# Altium footprint library common.PcbLib: 93 footprints (part 3 of 6)
Each footprint in its own frame and in the unit in brackets; x right, y up, seen from the top. Pads: shape width x height; smd on the part's side, far side on the other; paste and mask are expansions set on the pad; w line width, h text height; cw(c..) or ccw(c..) is an arc to the next point about the centre after c.
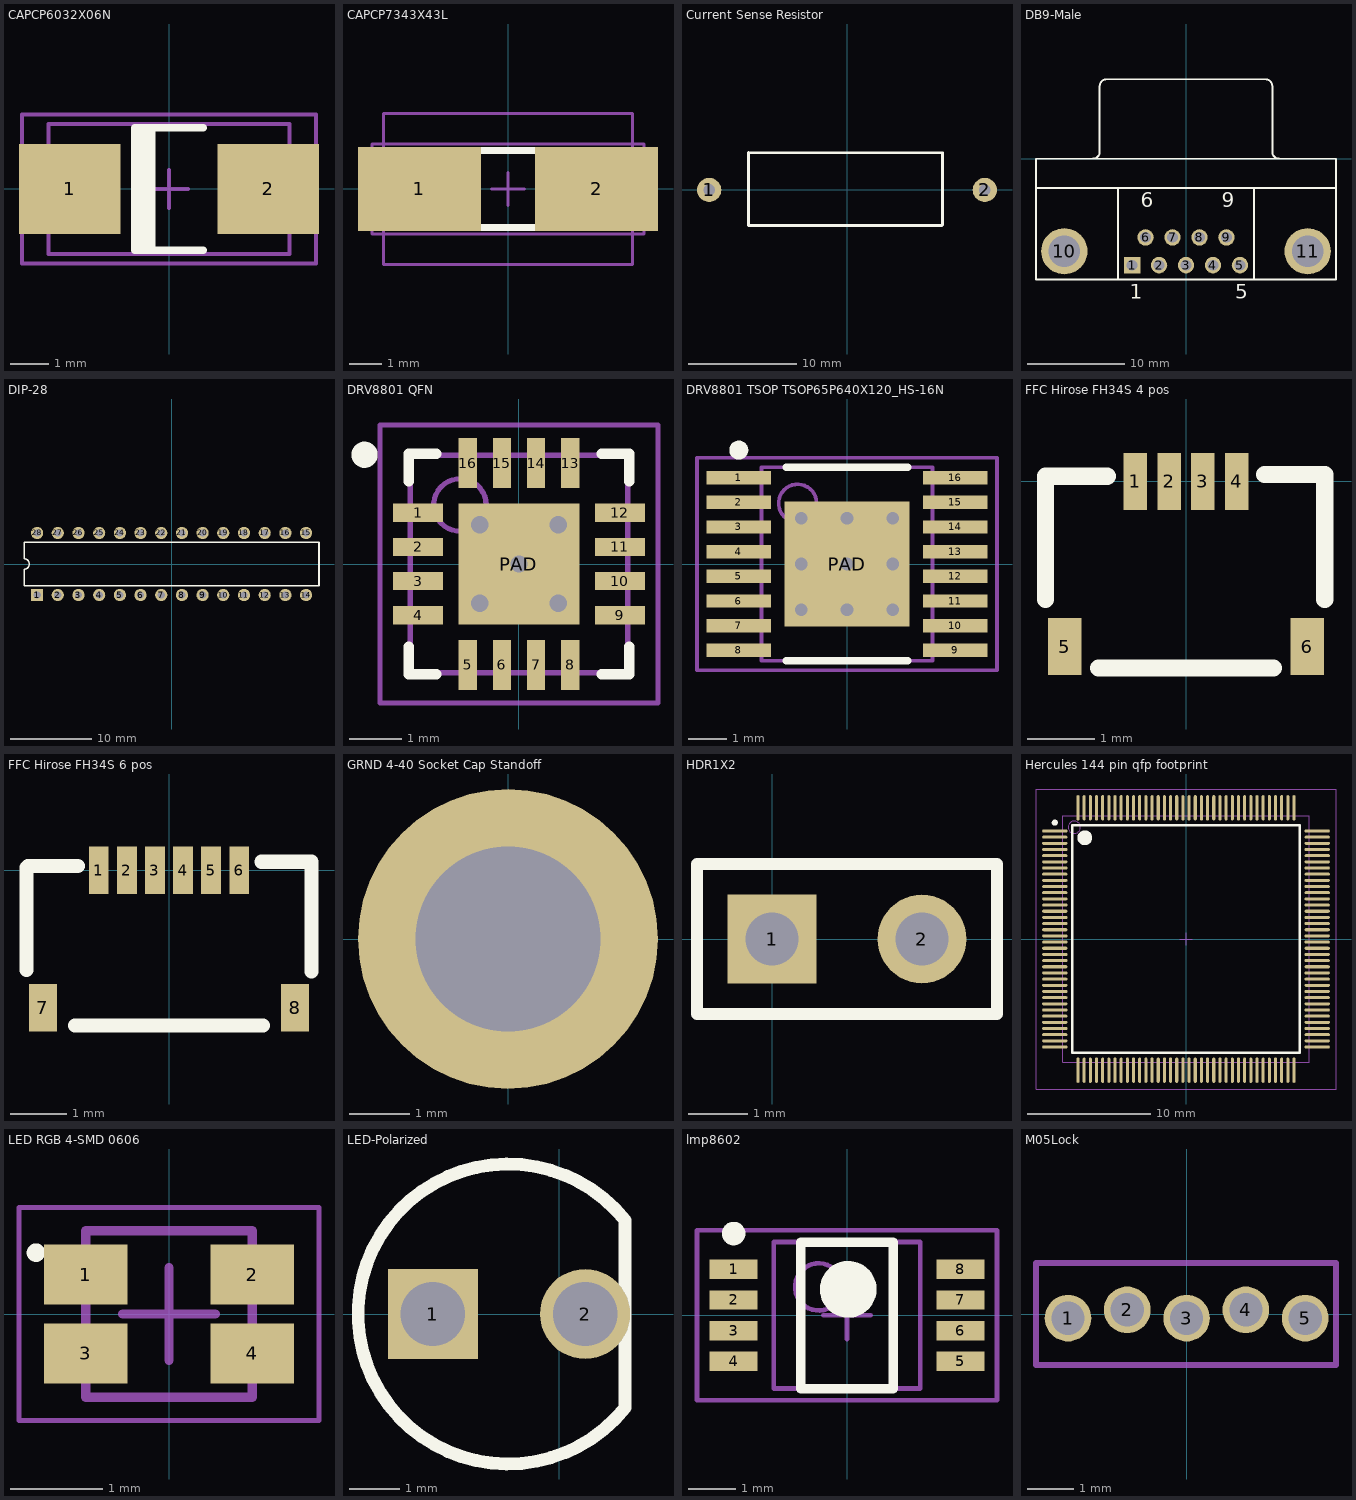
[diagram p2: the footprints below, top view; thin cyan lines are the x and y axes]

## CAPCP6032X06N [mm] "Chip Capacitor, 2-Leads, Body 6.0x3.2mm, IPC Medium Density"
height 0.6
pads (2):
  rect 2.65x2.35 smd: 1(-2.6,0) 2(2.6,0)
Top Overlay:
  rectangle: -0.9,-1.6 -0.35,1.6
  lines w0.2: 0.9,-1.6 -0.9,-1.6 -0.9,1.6 0.9,1.6
Mechanical 13:
  lines w0.1: -3.15,-1.7 3.15,-1.7 3.15,1.7 -3.15,1.7 -3.15,-1.7
Mechanical 15:
  lines w0.1: -0.5,0 0.5,0 ; 0,-0.5 0,0.5 ; -3.85,-1.95 3.85,-1.95 3.85,1.95 -3.85,1.95 -3.85,-1.95
3D body: height 0.6, standoff 0, extent -3.15,-1.7 3.15,1.7

## CAPCP7343X43L [mm] "Chip Capacitor, 2-Leads, Body 7.3x4.3mm, IPC High Density"
height 4.3
pads (2):
  rect 3.75x2.55 smd: 1(-2.7,0) 2(2.7,0)
Top Overlay:
  rectangle: -1.55,-1.175 -1,1.175
  lines w0.2: 1.55,-1.175 -1.55,-1.175 -1.55,1.175 1.55,1.175
Mechanical 13:
  lines w0.1: -3.8,-2.3 -3.8,2.3 3.8,2.3 3.8,-2.3 -3.8,-2.3
Mechanical 15:
  lines w0.1: -0.5,0 0.5,0 ; 0,-0.5 0,0.5 ; -4.15,-1.375 -4.15,1.375 4.15,1.375 4.15,-1.375 -4.15,-1.375
3D body: height 4.3, standoff 0, extent -3.8,-2.3 3.8,2.3

## Current Sense Resistor [mil] "Current Sense"
height 10
pads (2):
  round 88 hole 42: 1(-500,0) 2(500,0)
Top Overlay:
  lines w10: -357,-129 -357,136 -356,135 347,135 346,134 346,-127 344,-129 -357,-129

## DB9-Male [mm] "Connector; D Subminiature; 9 Position; Right Angle; Pitch 1.385 mm"
height 12.75
pads (11):
  rect 1.69x1.69 hole 1.09: 1(-5.54,-10.92)
  round 1.69 hole 1.09: 2(-2.77,-10.92) 3(0,-10.92) 4(2.77,-10.92) 5(5.54,-10.92) 6(-4.155,-8.08) 7(-1.385,-8.08) 8(1.385,-8.08) 9(4.155,-8.08)
  round 4.76 hole 3.26: 10(-12.495,-9.5) 11(12.495,-9.5)
Top Overlay:
  lines w0.2: -15.4,-3 15.4,-3 ; -9.56,0.005 ccw(c-9.56,0.7) -8.865,0.7 -8.865,7.493 ; -8.86,7.464 cw(c-8.165,7.464) -8.165,8.159 8.165,8.159 cw(c8.165,7.464) 8.86,7.464 ; -7,-12.4 -7,-3 ; 7,-12.4 7,-3 ; 8.865,7.493 8.865,0.7 ccw(c9.56,0.7) 9.56,0.005 ; -15.4,-12.4 -15.4,0 15.4,0 15.4,-12.4 -15.4,-12.4
  text "1" at -5.79,-14.375 h1.5
  text "5" at 5.04,-14.375 h1.5
  text "9" at 3.655,-4.975 h1.5
  text "6" at -4.655,-4.975 h1.5
3D body: height 12.55, standoff -4.1, extent -15.526,-12.675 15.374,8.225

## DIP-28 [mm] "Plastic DIP; 28 Leads; Row Spacing 7.62 mm; Pitch 2.54 mm"
height 5.34
pads (28):
  rect 1.5x1.5 hole 0.9: 1(-16.51,-3.81)
  round 1.5 hole 0.9: 2(-13.97,-3.81) 3(-11.43,-3.81) 4(-8.89,-3.81) 5(-6.35,-3.81) 6(-3.81,-3.81) 7(-1.27,-3.81) 8(1.27,-3.81) 9(3.81,-3.81) 10(6.35,-3.81) 11(8.89,-3.81) 12(11.43,-3.81) 13(13.97,-3.81) 14(16.51,-3.81) 15(16.51,3.81) 16(13.97,3.81) 17(11.43,3.81) 18(8.89,3.81) 19(6.35,3.81) 20(3.81,3.81) 21(1.27,3.81) 22(-1.27,3.81) 23(-3.81,3.81) 24(-6.35,3.81) 25(-8.89,3.81) 26(-11.43,3.81) 27(-13.97,3.81) 28(-16.51,3.81)
Top Overlay:
  lines w0.2: -18.1,-2.65 18.1,-2.65 18.1,2.65 -18.1,2.65 -18.1,0.635 cw(c-18.1,0) -18.1,-0.635 -18.1,-2.65

## DRV8801 QFN [mm] "QFN, 16-Leads, Body 4.2x4.2mm (max), Pitch 0.65mm, IPC Medium Density"
height 0.8
pads (17):
  rect 0.95x0.35 smd: 1(-1.925,0.975) 2(-1.925,0.325) 3(-1.925,-0.325) 4(-1.925,-0.975) 9(1.925,-0.975) 10(1.925,-0.325) 11(1.925,0.325) 12(1.925,0.975)
  rect 0.35x0.95 smd: 5(-0.975,-1.925) 6(-0.325,-1.925) 7(0.325,-1.925) 8(0.975,-1.925) 13(0.975,1.925) 14(0.325,1.925) 15(-0.325,1.925) 16(-0.975,1.925)
  rect 2.3x2.3 smd paste-99: PAD(0,0)
via -0.75,0.75 diameter 0.66 hole 0.33
via 0.75,0.75 diameter 0.66 hole 0.33
via -0.75,-0.75 diameter 0.66 hole 0.33
via 0.75,-0.75 diameter 0.66 hole 0.33
via 0,0 diameter 0.66 hole 0.33
Top Overlay:
  circle w0.25: c-2.944,2.083 r0.125
  lines w0.2: -2.1,-1.575 -2.1,-2.1 -1.575,-2.1 ; -2.1,1.575 -2.1,2.1 -1.575,2.1 ; 1.575,-2.1 2.1,-2.1 2.1,-1.575 ; 1.575,2.1 2.1,2.1 2.1,1.575
Top Paste:
  rectangle: 0.067,-0.914 0.914,-0.067
  rectangle: -0.914,-0.914 -0.067,-0.051
  rectangle: 0.067,0.076 0.914,0.914
  rectangle: -0.914,0.067 -0.067,0.914
Mechanical 13:
  circle w0.1: c-1.125,1.125 r0.5
  lines w0.1: -2.075,-2.075 -2.075,2.075 2.075,2.075 2.075,-2.075 -2.075,-2.075
Mechanical 15:
  lines w0.1: -0.5,0 0.5,0 ; 0,-0.5 0,0.5 ; -2.65,-2.65 -2.65,2.65 2.65,2.65 2.65,-2.65 -2.65,-2.65
3D body: height 0.8, standoff 0.08, extent -2.075,-2.075 2.075,2.075

## DRV8801 TSOP TSOP65P640X120_HS-16N [mm] "TSOP, 16-Leads, Body 5.1x4.5mm (max), Pitch 0.65mm, IPC Medium Density"
height 1.2
pads (17):
  rect 1.7x0.35 smd: 1(-2.85,2.275) 2(-2.85,1.625) 3(-2.85,0.975) 4(-2.85,0.325) 5(-2.85,-0.325) 6(-2.85,-0.975) 7(-2.85,-1.625) 8(-2.85,-2.275) 9(2.85,-2.275) 10(2.85,-1.625) 11(2.85,-0.975) 12(2.85,-0.325) 13(2.85,0.325) 14(2.85,0.975) 15(2.85,1.625) 16(2.85,2.275)
  rect 3.3x3.3 smd: PAD(0,0)
via 1.2,-1.2 diameter 0.66 hole 0.33
via 0,-1.2 diameter 0.66 hole 0.33
via -1.2,-1.2 diameter 0.66 hole 0.33
via 1.2,0 diameter 0.66 hole 0.33
via 0,0 diameter 0.66 hole 0.33
via -1.2,0 diameter 0.66 hole 0.33
via 1.2,1.2 diameter 0.66 hole 0.33
via 0,1.2 diameter 0.66 hole 0.33
via -1.2,1.2 diameter 0.66 hole 0.33
Top Overlay:
  circle w0.25: c-2.85,3 r0.125
  lines w0.2: -1.6,-2.55 1.6,-2.55 ; -1.6,2.55 1.6,2.55
Mechanical 13:
  circle w0.1: c-1.3,1.6 r0.5
  lines w0.1: -2.25,-2.55 2.25,-2.55 2.25,2.55 -2.25,2.55 -2.25,-2.55
Mechanical 15:
  lines w0.1: -0.5,0 0.5,0 ; 0,-0.5 0,0.5 ; -3.95,-2.8 3.95,-2.8 3.95,2.8 -3.95,2.8 -3.95,-2.8
3D body: height 1.2, standoff 0.1, extent -2.25,-2.55 2.25,2.55

## FFC Hirose FH34S 4 pos [mm] "Hirose FH34S 4 Pos"
height 1
pads (6):
  rect 0.35x0.85 all layers, no hole: 1(-0.75,0) 2(-0.25,0) 3(0.25,0) 4(0.75,0)
  rect 0.5x0.85 all layers, no hole: 5(-1.8,-2.45) 6(1.8,-2.45)
Top Overlay:
  lines w0.254: -2.083,-1.753 -2.083,0.076 -1.168,0.076 ; -1.295,-2.769 1.295,-2.769 ; 1.168,0.102 2.057,0.102 2.057,-1.753

## FFC Hirose FH34S 6 pos [mm] "Hirose FH34S 6 Pos"
height 1
pads (8):
  rect 0.35x0.85 all layers, no hole: 1(-1.25,0) 2(-0.75,0) 3(-0.25,0) 4(0.25,0) 5(0.75,0) 6(1.25,0)
  rect 0.5x0.85 all layers, no hole: 7(-2.25,-2.45) 8(2.25,-2.45)
Top Overlay:
  lines w0.254: -2.54,-1.778 -2.54,0.051 -2.515,0.076 -2.184,0.076 -1.626,0.076 ; -1.676,-2.769 1.676,-2.769 ; 1.651,0.152 2.54,0.152 2.54,-1.803

## GRND 4-40 Socket Cap Standoff [mil] "4-40 Socket Cap Standoff Ground"
height 112
pads (1):
  round 195 hole 120 unplated: ""(0,0)

## HDR1X2 [mm] "Connector; Header; 2 Position"
pads (2):
  rect 1.5x1.5 hole 0.9: 1(0,0)
  round 1.5 hole 0.9: 2(2.54,0)
Top Overlay:
  lines w0.2: -1.27,-1.27 -1.27,1.27 3.81,1.27 3.81,-1.27 -1.27,-1.27
3D body: height 10.38, standoff -3.16, extent -1.067,-1.168 3.607,1.169

## Hercules 144 pin qfp footprint [mm] "TSQFP, 144-Leads, Body 22.2x22.2mm (max), Pitch 0.50mm, IPC Low Density"
height 1.45
pads (144):
  oval 2.05x0.25 smd: 1(-10.625,8.75) 2(-10.625,8.25) 3(-10.625,7.75) 4(-10.625,7.25) 5(-10.625,6.75) 6(-10.625,6.25) 7(-10.625,5.75) 8(-10.625,5.25) 9(-10.625,4.75) 10(-10.625,4.25) 11(-10.625,3.75) 12(-10.625,3.25) 13(-10.625,2.75) 14(-10.625,2.25) 15(-10.625,1.75) 16(-10.625,1.25) 17(-10.625,0.75) 18(-10.625,0.25) 19(-10.625,-0.25) 20(-10.625,-0.75) 21(-10.625,-1.25) 22(-10.625,-1.75) 23(-10.625,-2.25) 24(-10.625,-2.75) 25(-10.625,-3.25) 26(-10.625,-3.75) 27(-10.625,-4.25) 28(-10.625,-4.75) 29(-10.625,-5.25) 30(-10.625,-5.75) 31(-10.625,-6.25) 32(-10.625,-6.75) 33(-10.625,-7.25) 34(-10.625,-7.75) 35(-10.625,-8.25) 36(-10.625,-8.75) 73(10.625,-8.75) 74(10.625,-8.25) 75(10.625,-7.75) 76(10.625,-7.25) 77(10.625,-6.75) 78(10.625,-6.25) 79(10.625,-5.75) 80(10.625,-5.25) 81(10.625,-4.75) 82(10.625,-4.25) 83(10.625,-3.75) 84(10.625,-3.25) 85(10.625,-2.75) 86(10.625,-2.25) 87(10.625,-1.75) 88(10.625,-1.25) 89(10.625,-0.75) 90(10.625,-0.25) 91(10.625,0.25) 92(10.625,0.75) 93(10.625,1.25) 94(10.625,1.75) 95(10.625,2.25) 96(10.625,2.75) 97(10.625,3.25) 98(10.625,3.75) 99(10.625,4.25) 100(10.625,4.75) 101(10.625,5.25) 102(10.625,5.75) 103(10.625,6.25) 104(10.625,6.75) 105(10.625,7.25) 106(10.625,7.75) 107(10.625,8.25) 108(10.625,8.75)
  oval 0.25x2.05 smd: 37(-8.75,-10.625) 38(-8.25,-10.625) 39(-7.75,-10.625) 40(-7.25,-10.625) 41(-6.75,-10.625) 42(-6.25,-10.625) 43(-5.75,-10.625) 44(-5.25,-10.625) 45(-4.75,-10.625) 46(-4.25,-10.625) 47(-3.75,-10.625) 48(-3.25,-10.625) 49(-2.75,-10.625) 50(-2.25,-10.625) 51(-1.75,-10.625) 52(-1.25,-10.625) 53(-0.75,-10.625) 54(-0.25,-10.625) 55(0.25,-10.625) 56(0.75,-10.625) 57(1.25,-10.625) 58(1.75,-10.625) 59(2.25,-10.625) 60(2.75,-10.625) 61(3.25,-10.625) 62(3.75,-10.625) 63(4.25,-10.625) 64(4.75,-10.625) 65(5.25,-10.625) 66(5.75,-10.625) 67(6.25,-10.625) 68(6.75,-10.625) 69(7.25,-10.625) 70(7.75,-10.625) 71(8.25,-10.625) 72(8.75,-10.625) 109(8.75,10.625) 110(8.25,10.625) 111(7.75,10.625) 112(7.25,10.625) 113(6.75,10.625) 114(6.25,10.625) 115(5.75,10.625) 116(5.25,10.625) 117(4.75,10.625) 118(4.25,10.625) 119(3.75,10.625) 120(3.25,10.625) 121(2.75,10.625) 122(2.25,10.625) 123(1.75,10.625) 124(1.25,10.625) 125(0.75,10.625) 126(0.25,10.625) 127(-0.25,10.625) 128(-0.75,10.625) 129(-1.25,10.625) 130(-1.75,10.625) 131(-2.25,10.625) 132(-2.75,10.625) 133(-3.25,10.625) 134(-3.75,10.625) 135(-4.25,10.625) 136(-4.75,10.625) 137(-5.25,10.625) 138(-5.75,10.625) 139(-6.25,10.625) 140(-6.75,10.625) 141(-7.25,10.625) 142(-7.75,10.625) 143(-8.25,10.625) 144(-8.75,10.625)
Top Overlay:
  circle w0.25: c-10.625,9.425 r0.125
  circle w0.6: c-8.2,8.2 r0.3
  lines w0.2: -9.2,-9.2 -9.2,9.2 9.2,9.2 9.2,-9.2 -9.2,-9.2
Mechanical 13:
  circle w0.1: c-9.05,9.05 r0.5
  lines w0.1: -10,-10 -10,10 10,10 10,-10 -10,-10
Mechanical 15:
  lines w0.1: -0.5,0 0.5,0 ; 0,-0.5 0,0.5 ; -12.15,-12.15 -12.15,12.15 12.15,12.15 12.15,-12.15 -12.15,-12.15
3D body: height 1.45, standoff 0.05, extent -10,-10 10,10

## LED RGB 4-SMD 0606 [mm] "LED RGB 40SMD 0606"
height 0.7
pads (4):
  rect 0.9x0.65 smd: 1(-0.9,0.425) 2(0.9,0.425) 3(-0.9,-0.425) 4(0.9,-0.425)
Top Overlay:
  circle w0.1: c-1.437,0.663 r0.05
Mechanical 13:
  lines w0.1: -0.9,-0.9 0.9,-0.9 0.9,0.9 -0.9,0.9 -0.9,-0.9
Mechanical 15:
  lines w0.05: -1.62,-1.15 1.62,-1.15 1.62,1.15 -1.62,1.15 -1.62,-1.15
  lines w0.1: -0.5,0 0.5,0 ; 0,-0.5 0,0.5
3D body: height 0.7, standoff 0, extent -0.9,-0.9 0.9,0.9

## LED-Polarized [mil]
pads (2):
  rect 70x70 hole 50: 1(-98.43,0)
  round 70 hole 50: 2(20,0)
Top Overlay:
  lines w10: 51.06,-72.85 cw(c-40,0) 51.06,72.85 51.06,-72.85

## lmp8602 [mm] "8 pin MSOP lmp8602"
height 1.09
pads (8):
  rect 1.02x0.41 smd: 1(-2.4,0.975) 2(-2.4,0.325) 3(-2.4,-0.325) 4(-2.4,-0.975) 5(2.4,-0.975) 6(2.4,-0.325) 7(2.4,0.325) 8(2.4,0.975)
Top Overlay:
  circle w0.6: c0.025,0.55 r0.3
  circle w0.25: c-2.4,1.73 r0.125
  lines w0.2: -0.975,-1.55 0.975,-1.55 0.975,1.55 -0.975,1.55 -0.975,-1.55
Mechanical 13:
  circle w0.1: c-0.6,0.6 r0.5
  lines w0.1: -1.55,-1.55 1.55,-1.55 1.55,1.55 -1.55,1.55 -1.55,-1.55
Mechanical 15:
  lines w0.1: -0.5,0 0.5,0 ; 0,-0.5 0,0.5 ; -3.175,-1.8 3.175,-1.8 3.175,1.8 -3.175,1.8 -3.175,-1.8
3D body: height 1.09, standoff 0.01, extent -1.55,-1.55 1.55,1.55

## M05Lock [mm] ".05\" Header Lock Footprint"
pads (5):
  round 1 hole 0.711: 1(-2.54,-0.089) 2(-1.27,0.089) 3(0,-0.089) 4(1.27,0.089) 5(2.54,-0.089)
Mechanical 15:
  lines w0.127: -3.226,-1.092 3.2,-1.092 3.2,1.092 -3.226,1.092 -3.226,-1.092